# EAGLE library part 612X5020621 (library Wuerth_Elektronik_eiCan_05_Box_Header_IDC_Connectors_1_2)
WR-BHD 2.54mm Male SMT Box Header High Temperature, 50 pins
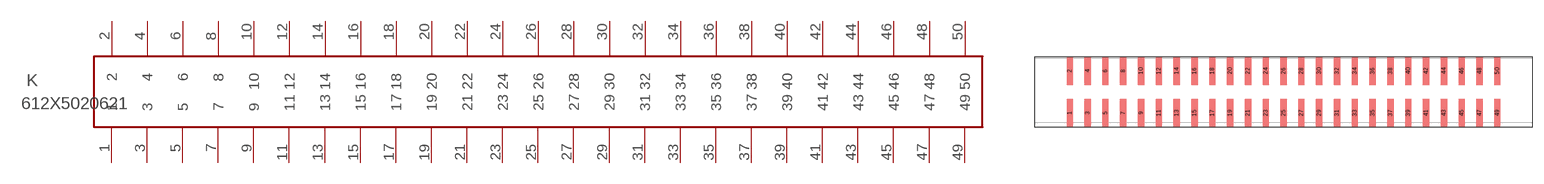
[diagram p74: symbol with the pads of 612X5020621; footprint 612X5020621]

Designator prefix K

## 612X5020621  [612X5020621]
1  1  pas
2  2  pas
3  3  pas
4  4  pas
5  5  pas
6  6  pas
7  7  pas
8  8  pas
9  9  pas
10  10  pas
11  11  pas
12  12  pas
13  13  pas
14  14  pas
15  15  pas
16  16  pas
17  17  pas
18  18  pas
19  19  pas
20  20  pas
21  21  pas
22  22  pas
23  23  pas
24  24  pas
25  25  pas
26  26  pas
27  27  pas
28  28  pas
29  29  pas
30  30  pas
31  31  pas
32  32  pas
33  33  pas
34  34  pas
35  35  pas
36  36  pas
37  37  pas
38  38  pas
39  39  pas
40  40  pas
41  41  pas
42  42  pas
43  43  pas
44  44  pas
45  45  pas
46  46  pas
47  47  pas
48  48  pas
49  49  pas
50  50  pas

## Footprint 612X5020621 (pad centres in mm)
WR-BHD 2.54mm Male SMT Box Header High Temperature, 50 pins
smd 0.9 x 4: 1 -25.4,-3; 2 -25.4,3; 3 -22.86,-3; 4 -22.86,3; 5 -20.32,-3; 6 -20.32,3; 7 -17.78,-3; 8 -17.78,3; 9 -15.24,-3; 10 -15.24,3; 11 -12.7,-3; 12 -12.7,3; 13 -10.16,-3; 14 -10.16,3; 15 -7.62,-3; 16 -7.62,3; 17 -5.08,-3; 18 -5.08,3; 19 -2.54,-3; 20 -2.54,3; 21 0,-3; 22 0,3; 23 2.54,-3; 24 2.54,3; 25 5.08,-3; 26 5.08,3; 27 7.62,-3; 28 7.62,3; 29 10.16,-3; 30 10.16,3; 31 12.7,-3; 32 12.7,3; 33 15.24,-3; 34 15.24,3; 35 17.78,-3; 36 17.78,3; 37 20.32,-3; 38 20.32,3; 39 22.86,-3; 40 22.86,3; 41 25.4,-3; 42 25.4,3; 43 27.94,-3; 44 27.94,3; 45 30.48,-3; 46 30.48,3; 47 33.02,-3; 48 33.02,3; 49 35.56,-3; 50 35.56,3